# Altium footprint library PCB1.PcbLib: 9 footprints
Each footprint in its own frame and in the unit in brackets; x right, y up, seen from the top. Pads: shape width x height; smd on the part's side, far side on the other; paste and mask are expansions set on the pad; w line width, h text height; cw(c..) or ccw(c..) is an arc to the next point about the centre after c.
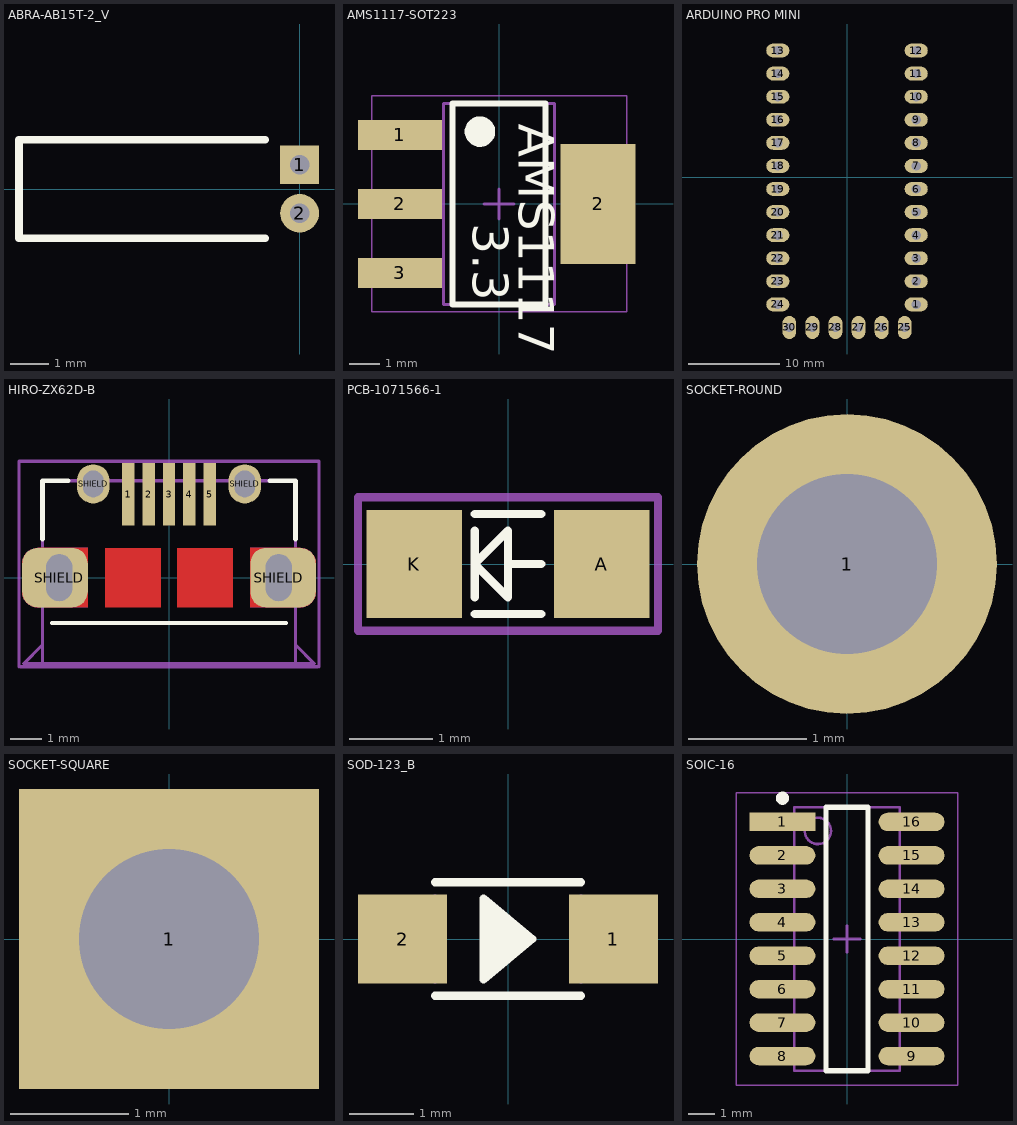
[diagram p0: the footprints below, top view; thin cyan lines are the x and y axes]

## ABRA-AB15T-2_V [mm] "THD, 2-Leads, Body 5.1x1.5mm, Height 1.5mm"
height 1.5
pads (2):
  rect 1x1 hole 0.5: 1(0,0.627)
  round 1 hole 0.5: 2(0,-0.627)
Top Overlay:
  lines w0.2: -0.889,-1.27 -7.239,-1.27 -7.239,1.27 -0.889,1.27
3D body: height 2, standoff -2, extent -7.016,-1 0.124,1

## AMS1117-SOT223 [mm]
pads (4):
  rect 2.8x1 smd: 1(-3.3,2.3) 2(-3.3,0) 3(-3.3,-2.3)
  rect 2.5x4 smd: 2(3.3,0)
Top Overlay:
  circle w0.508: c-0.635,2.413 r0.254
  lines w0.2: -1.55,-3.35 -1.55,3.35 1.55,3.35 1.55,-3.35 -1.55,-3.35
  text "AMS1117" at 0.254,2.667 h2.03
  text "3.3" at -1.27,-0.635 h2.03
Mechanical 13:
  lines w0.1: -1.855,-3.355 -1.855,3.355 1.855,3.355 1.855,-3.355 -1.855,-3.355
Mechanical 15:
  lines w0.05: -4.25,-3.6 -4.25,3.6 4.25,3.6 4.25,-3.6 -4.25,-3.6
  lines w0.1: -0.5,0 0.5,0 ; 0,-0.5 0,0.5
3D body: height 1.81, standoff -0.36, extent -3.523,-3.35 3.859,3.35

## ARDUINO PRO MINI [mil]
pads (30):
  oval 100x60 hole 40: 1(300,-550) 2(300,-450) 3(300,-350) 4(300,-250) 5(300,-150) 6(300,-50) 7(300,50) 8(300,150) 9(300,250) 10(300,350) 11(300,450) 12(300,550) 13(-300,550) 14(-300,450) 15(-300,350) 16(-300,250) 17(-300,150) 18(-300,50) 19(-300,-50) 20(-300,-150) 21(-300,-250) 22(-300,-350) 23(-300,-450) 24(-300,-550)
  oval 60x100 hole 40: 25(250,-650) 26(150,-650) 27(50,-650) 28(-50,-650) 29(-150,-650) 30(-250,-650)
3D body "ASSEMBLY_AP214.STEP": height 238.68, standoff -263.1, extent -350,-700 350,600

## HIRO-ZX62D-B [mm] "HIRO-ZX62D-B"
pads (9):
  rect 0.4x2 smd: 1(-1.3,2.675) 2(-0.65,2.675) 3(0,2.675) 4(0.65,2.675) 5(1.3,2.675)
  rrect52% 2.1x1.9 hole 0.825 slot 1.5 at 90 deg copper offset -0.138,0: SHIELD(-3.512,0)
  rrect100% 1.05x1.25 hole 0.65 slot 0.85 at 90 deg: SHIELD(-2.425,3) SHIELD(2.425,3)
  rrect52% 2.1x1.9 hole 0.825 slot 1.5 at 90 deg copper offset 0.138,0: SHIELD(3.513,0)
Top Layer:
  rectangle: 0.25,-0.95 2.05,0.95
  rectangle: -2.05,-0.95 -0.25,0.95
  region: -2.6,0.95 -4.2,0.95 -4.294,0.941 -4.381,0.915 -4.434,0.891 -4.48,0.862 -4.52,0.832 -4.565,0.791 -4.596,0.753 -4.622,0.716 -4.647,0.673 -4.66,0.64 -4.676,0.6 -4.688,0.55 -4.696,0.505 -4.7,0.45 -4.7,-0.45 -4.696,-0.503 -4.689,-0.548 -4.677,-0.599 -4.661,-0.641 -4.641,-0.683 -4.617,-0.724 -4.589,-0.761 -4.56,-0.797 -4.521,-0.831 -4.483,-0.86 -4.439,-0.888 -4.397,-0.908 -4.354,-0.924 -4.301,-0.939 -4.248,-0.946 -4.2,-0.95 -2.6,-0.95
  region: 2.6,-0.95 4.2,-0.95 4.294,-0.941 4.381,-0.915 4.434,-0.891 4.48,-0.862 4.52,-0.832 4.565,-0.791 4.596,-0.753 4.622,-0.716 4.647,-0.673 4.66,-0.64 4.676,-0.6 4.688,-0.55 4.696,-0.505 4.7,-0.45 4.7,0.45 4.696,0.503 4.689,0.548 4.677,0.599 4.661,0.641 4.641,0.683 4.617,0.724 4.589,0.761 4.56,0.797 4.521,0.831 4.483,0.86 4.439,0.888 4.397,0.908 4.354,0.924 4.301,0.939 4.248,0.946 4.2,0.95 2.6,0.95
Bottom Layer:
  region: -2.6,0.95 -4.2,0.95 -4.294,0.941 -4.381,0.915 -4.434,0.891 -4.48,0.862 -4.52,0.832 -4.565,0.791 -4.596,0.753 -4.622,0.716 -4.647,0.673 -4.66,0.64 -4.676,0.6 -4.688,0.55 -4.696,0.505 -4.7,0.45 -4.7,-0.45 -4.696,-0.503 -4.689,-0.548 -4.677,-0.599 -4.661,-0.641 -4.641,-0.683 -4.617,-0.724 -4.589,-0.761 -4.56,-0.797 -4.521,-0.831 -4.483,-0.86 -4.439,-0.888 -4.397,-0.908 -4.354,-0.924 -4.301,-0.939 -4.248,-0.946 -4.2,-0.95 -2.6,-0.95
  region: 2.6,-0.95 4.2,-0.95 4.294,-0.941 4.381,-0.915 4.434,-0.891 4.48,-0.862 4.52,-0.832 4.565,-0.791 4.596,-0.753 4.622,-0.716 4.647,-0.673 4.66,-0.64 4.676,-0.6 4.688,-0.55 4.696,-0.505 4.7,-0.45 4.7,0.45 4.696,0.503 4.689,0.548 4.677,0.599 4.661,0.641 4.641,0.683 4.617,0.724 4.589,0.761 4.56,0.797 4.521,0.831 4.483,0.86 4.439,0.888 4.397,0.908 4.354,0.924 4.301,0.939 4.248,0.946 4.2,0.95 2.6,0.95
Top Overlay:
  lines w0.125: -3.75,-1.45 3.75,-1.45
  lines w0.15: -4.05,1.225 -4.05,3.1 -3.225,3.1 ; 3.225,3.1 4.05,3.1 4.05,1.225
Mechanical 13:
  lines w0.1: -4.05,-2.15 -4.65,-2.75 -4.05,-2.75 ; 4.05,-2.15 4.65,-2.75 4.05,-2.75 ; -4.05,-2.75 4.05,-2.75 ; -4.05,-2.75 -4.05,3.1 4.05,3.1 4.05,-2.75
Mechanical 15:
  lines w0.1: -4.8,-2.85 -4.8,3.725 4.8,3.725 4.8,-2.85 ; -4.75,-2.85 4.75,-2.85
3D body: height 2.73, standoff -0.75, extent -4.046,-2.731 4.047,3.069

## PCB-1071566-1 [mm]
pads (2):
  rect 1.15x1.3 smd: A(1.125,0) K(-1.125,0)
Top Overlay:
  lines w0.1: -0.4,-0.6 0.4,-0.6 ; -0.4,-0.4 -0.4,0.4 ; -0.4,0.6 0.4,0.6 ; 0,0 0.4,0 ; -0.4,0 0,0.4 0,-0.4 -0.4,0
Mechanical 15:
  lines w0.1: -1.8,-0.8 -1.8,0.8 1.8,0.8 1.8,-0.8 -1.8,-0.8

## SOCKET-ROUND [mil]
pads (1):
  round 100 hole 60 unplated: 1(0,0)

## SOCKET-SQUARE [mil]
pads (1):
  rect 100x100 hole 60 unplated: 1(0,0)

## SOD-123_B [mil] "SOD-123_B"
pads (2):
  rect 55x55 smd: 1(65,0) 2(-65,0)
Top Overlay:
  lines w5: -45,-35 45,-35 ; -45,35 45,35 ; -5,0 -5,5 ; -15,-20 -10,20 10,0 -15,-15 ; -15,-20 15,0 ; -15,-20 -15,-15 ; -15,-20 -15,-25 15,0 ; -15,-15 -10,15 5,0 -10,-10 -10,-5 ; -15,-15 -15,25 15,0 ; -10,-5 -5,5 ; -10,-5 0,0 -5,5 ; -10,-5 -10,10 -5,5
Mechanical 16:
  region: -47.24,18 -76.77,18 -76.77,-15.75 -47.24,-15.75
  region: 77,18 48,18 48,-15.75 77,-15.75
  lines w5: -45,-25 -45,25 ; 45,-25 45,25

## SOIC-16 [mm] "SOIC, 16-Leads, Body 9.9x3.9mm, Pitch 1.27mm, IPC Low Density"
height 1.75
pads (16):
  rect 2.5x0.7 smd: 1(-2.45,4.445)
  oval 2.5x0.7 smd: 2(-2.45,3.175) 3(-2.45,1.905) 4(-2.45,0.635) 5(-2.45,-0.635) 6(-2.45,-1.905) 7(-2.45,-3.175) 8(-2.45,-4.445) 9(2.45,-4.445) 10(2.45,-3.175) 11(2.45,-1.905) 12(2.45,-0.635) 13(2.45,0.635) 14(2.45,1.905) 15(2.45,3.175) 16(2.45,4.445)
Top Overlay:
  circle w0.25: c-2.45,5.345 r0.125
  lines w0.2: -0.8,-5 0.8,-5 0.8,5 -0.8,5 -0.8,-5
Mechanical 13:
  circle w0.1: c-1.105,4.105 r0.5
  lines w0.1: -2.005,-5.005 2.005,-5.005 2.005,5.005 -2.005,5.005 -2.005,-5.005
Mechanical 15:
  lines w0.05: -4.2,-5.55 4.2,-5.55 4.2,5.55 -4.2,5.55 -4.2,-5.55
  lines w0.1: -0.5,0 0.5,0 ; 0,-0.5 0,0.5
3D body: height 2, standoff 0, extent -3.082,-5.04 3.081,5.04